# Altium footprint library DISCRETE_SMD.PcbLib: 29 footprints (part 1 of 2)
Each footprint in its own frame and in the unit in brackets; x right, y up, seen from the top. Pads: shape width x height; smd on the part's side, far side on the other; paste and mask are expansions set on the pad; w line width, h text height; cw(c..) or ccw(c..) is an arc to the next point about the centre after c.
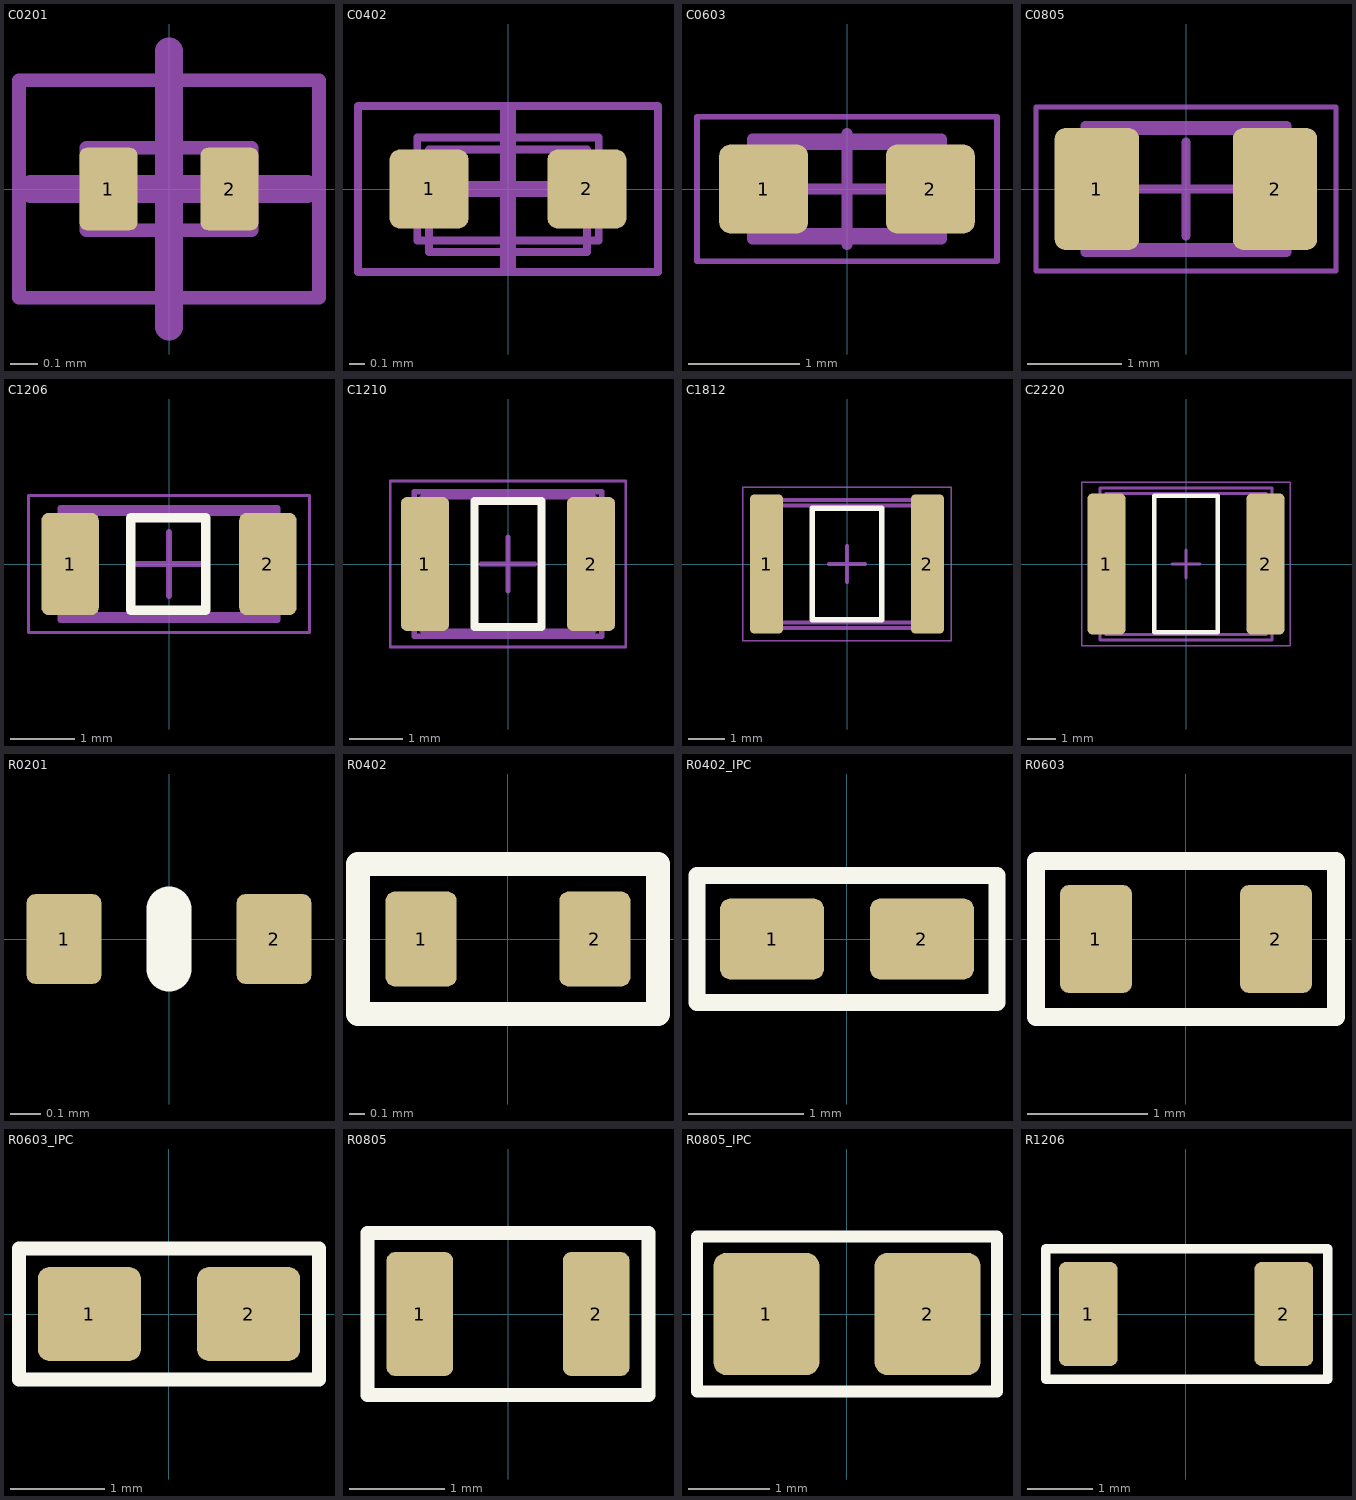
[diagram p0: the footprints below, top view; thin cyan lines are the x and y axes]

## C0201 [mm] "Чип-конденсатор 0201"
height 0.3
pads (2):
  rrect25% 0.21x0.3 smd paste-0.006 mask+0.075: 1(-0.22,0) 2(0.22,0)
Top Assembly:
  lines w0.05: -0.3,-0.15 -0.3,0.15 0.3,0.15 0.3,-0.15 -0.3,-0.15
Top Designator:
  text ".Designator" at -3.647,-0.357 h1
Top 3D Body:
  lines w0.05: -0.3,-0.15 -0.3,0.15 0.3,0.15 0.3,-0.15 -0.3,-0.15
Top Courtyard:
  lines w0.05: -0.545,-0.395 -0.545,0.395 0.545,0.395 0.545,-0.395 -0.545,-0.395
Top Component Center:
  lines w0.1: -0.5,0 0.5,0 ; 0,-0.5 0,0.5
3D body "CAPC0603X03N.step": height 0.31, standoff 0.01, extent -0.3,-0.15 0.3,0.15

## C0402 [mm] "Чип-конденсатор 0402"
height 0.5
pads (2):
  rrect25% 0.5x0.5 smd paste-0.013 mask+0.075: 1(-0.5,0) 2(0.5,0)
Top Assembly:
  lines w0.05: -0.575,-0.325 -0.575,0.325 0.575,0.325 0.575,-0.325 -0.575,-0.325
Top Designator:
  text ".Designator" at -3.647,-0.357 h1
Top 3D Body:
  lines w0.05: -0.5,-0.4 -0.5,0.25 0.5,0.25 0.5,-0.4 -0.5,-0.4
Top Courtyard:
  lines w0.05: -0.95,-0.525 -0.95,0.525 0.95,0.525 0.95,-0.525 -0.95,-0.525
Top Component Center:
  lines w0.1: -0.5,0 0.5,0 ; 0,-0.5 0,0.5
3D body "CAPC1005X05N.step": height 0.51, standoff 0.01, extent -0.5,-0.25 0.5,0.25

## C0603 [mm] "Чип-конденсатор 0603"
height 0.8
pads (2):
  rrect25% 0.8x0.8 smd paste-0.021 mask+0.075: 1(-0.75,0) 2(0.75,0)
Top Assembly:
  lines w0.1: -0.85,-0.45 0.85,-0.45 0.85,0.45 -0.85,0.45 -0.85,-0.45
Top Designator:
  text ".Designator" at -3.647,-0.357 h1
Top 3D Body:
  lines w0.1: -0.8,-0.4 0.8,-0.4 0.8,0.4 -0.8,0.4 -0.8,-0.4
Top Courtyard:
  lines w0.05: -1.35,-0.65 1.35,-0.65 1.35,0.65 -1.35,0.65 -1.35,-0.65
Top Component Center:
  lines w0.1: -0.5,0 0.5,0 ; 0,-0.5 0,0.5
3D body "CAPC1608X08N.step": height 0.81, standoff 0.01, extent -0.8,-0.4 0.8,0.4

## C0805 [mm] "Чип-конденсатор 0805"
height 0.7
pads (2):
  rrect25% 0.9x1.3 smd paste-0.027 mask+0.075: 1(-0.95,0) 2(0.95,0)
Top Assembly:
  lines w0.1: -1.075,-0.675 1.075,-0.675 1.075,0.675 -1.075,0.675 -1.075,-0.675
Top Designator:
  text ".Designator" at -3.647,-0.357 h1
Top 3D Body:
  lines w0.1: -1,-0.625 1,-0.625 1,0.625 -1,0.625 -1,-0.625
Top Courtyard:
  lines w0.05: -1.6,-0.875 -1.6,0.875 1.6,0.875 1.6,-0.875 -1.6,-0.875
Top Component Center:
  lines w0.1: -0.5,0 0.5,0 ; 0,-0.5 0,0.5
3D body "CAPC2012X06N.step": height 0.61, standoff 0.01, extent -1,-0.625 1,0.625

## C1206 [mm] "Чип-конденсатор 1206"
height 1.35
pads (2):
  rrect25% 0.9x1.6 smd paste-0.03 mask+0.075: 1(-1.55,0) 2(1.55,0)
Top Overlay:
  lines w0.15: -0.6,-0.725 0.575,-0.725 0.575,0.725 -0.6,0.725 -0.6,-0.725
Top Assembly:
  lines w0.1: -1.7,-0.875 1.7,-0.875 1.7,0.875 -1.7,0.875 -1.7,-0.875
Top Designator:
  text ".Designator" at -3.647,-0.357 h1
Top 3D Body:
  lines w0.1: -1.6,-0.8 -1.6,0.8 1.6,0.8 1.6,-0.8 -1.6,-0.8
Top Courtyard:
  lines w0.05: -2.2,-1.075 -2.2,1.075 2.2,1.075 2.2,-1.075 -2.2,-1.075
Top Component Center:
  lines w0.1: -0.5,0 0.5,0 ; 0,-0.5 0,0.5
3D body "CAPC3216X12N.step": height 1.26, standoff 0.01, extent -1.6,-0.8 1.6,0.8

## C1210 [mm] "Чип-конденсатор 1210"
height 1.35
pads (2):
  rrect25% 0.9x2.5 smd paste-0.034 mask+0.075: 1(-1.55,0) 2(1.55,0)
Top Overlay:
  lines w0.15: -0.625,-1.175 -0.625,1.175 0.625,1.175 0.625,-1.175 -0.625,-1.175
Top Assembly:
  lines w0.1: -1.75,-1.35 -1.75,1.35 1.75,1.35 1.75,-1.35 -1.75,-1.35
Top Designator:
  text ".Designator" at -3.647,-0.357 h1
Top 3D Body:
  lines w0.1: -1.6,-1.25 -1.6,1.25 1.6,1.25 1.6,-1.25 -1.6,-1.25
Top Courtyard:
  lines w0.05: -2.2,-1.55 -2.2,1.55 2.2,1.55 2.2,-1.55 -2.2,-1.55
Top Component Center:
  lines w0.1: -0.5,0 0.5,0 ; 0,-0.5 0,0.5
3D body "CAPC3225X12N.step": height 1.26, standoff 0.01, extent -1.6,-1.25 1.6,1.25

## C1812 [mm] "Чип-конденсатор 1812"
height 1.35
pads (2):
  rrect25% 0.9x3.8 smd paste-0.037 mask+0.075: 1(-2.2,0) 2(2.2,0)
Top Overlay:
  lines w0.15: -0.95,-1.525 0.95,-1.525 0.95,1.525 -0.95,1.525 -0.95,-1.525
Top Assembly:
  lines w0.1: -2.45,-1.75 -2.45,1.75 2.45,1.75 2.45,-1.75 -2.45,-1.75
Top Designator:
  text ".Designator" at -3.647,-0.357 h1
Top 3D Body:
  lines w0.1: -2.25,-1.6 -2.25,1.6 2.25,1.6 2.25,-1.6 -2.25,-1.6
Top Courtyard:
  lines w0.05: -2.85,-2.1 -2.85,2.1 2.85,2.1 2.85,-2.1 -2.85,-2.1
Top Component Center:
  lines w0.1: -0.5,0 0.5,0 ; 0,-0.5 0,0.5
3D body "CAPC4532X12N.step": height 1.26, standoff 0.01, extent -2.25,-1.6 2.25,1.6

## C2220 [mm] "Чип-конденсатор 2220"
height 2.5
pads (2):
  rrect25% 1.35x5 smd paste-0.054 mask+0.075: 1(-2.825,0) 2(2.825,0)
Top Overlay:
  lines w0.15: -1.125,-2.425 1.125,-2.425 1.125,2.425 -1.125,2.425 -1.125,-2.425
Top Assembly:
  lines w0.1: -3.05,-2.7 -3.05,2.7 3.05,2.7 3.05,-2.7 -3.05,-2.7
Top Designator:
  text ".Designator" at -3.647,-0.357 h1
Top 3D Body:
  lines w0.1: -2.85,-2.5 2.85,-2.5 2.85,2.5 -2.85,2.5 -2.85,-2.5
Top Courtyard:
  lines w0.05: -3.7,-2.9 -3.7,2.9 3.7,2.9 3.7,-2.9 -3.7,-2.9
Top Component Center:
  lines w0.1: -0.5,0 0.5,0 ; 0,-0.5 0,0.5
3D body "CAPC5750X25N.step": height 2.51, standoff 0.01, extent -2.85,-2.5 2.85,2.5

## R0201 [mm] "Чип-резистор 0201"
pads (2):
  rrect25% 0.25x0.3 smd paste-0.007 mask+0.05: 1(-0.35,0) 2(0.35,0)
Top Overlay:
  lines w0.15: 0,-0.1 0,0.1
3D body "User Library-RES_0603-0201.step": height 0.35, standoff 0.01, extent -0.34,-0.165 0.34,0.165

## R0402 [mm] "Чип-резистор 0402"
pads (2):
  rrect25% 0.45x0.6 smd paste-0.013 mask+0.05: 1(-0.55,0) 2(0.55,0)
Top Overlay:
  lines w0.15: -0.95,-0.475 0.95,-0.475 0.95,0.475 -0.95,0.475 -0.95,-0.475
3D body "User Library-0402R.step": height 0.35, standoff 0.01, extent -0.52,-0.3 0.52,0.3

## R0402_IPC [mm] "Чип-резистор 0402"
pads (2):
  rrect25% 0.9x0.7 smd paste-0.02 mask+0.075: 1(-0.65,0) 2(0.65,0)
Top Overlay:
  lines w0.15: -1.3,-0.55 -1.3,0.55 1.3,0.55 1.3,-0.55 -1.3,-0.55
3D body "User Library-0402R.step": height 0.35, standoff 0.01, extent -0.52,-0.3 0.52,0.3

## R0603 [mm] "Чип-резистор 0603"
pads (2):
  rrect25% 0.6x0.9 smd paste-0.018 mask+0.075: 1(-0.75,0) 2(0.75,0)
Top Overlay:
  lines w0.15: -1.25,-0.65 1.25,-0.65 1.25,0.65 -1.25,0.65 -1.25,-0.65
3D body "User Library-RES_1609-0603.step": height 0.57, standoff 0.01, extent -0.85,-0.4 0.85,0.4

## R0603_IPC [mm] "Чип-резистор 0603"
pads (2):
  rrect25% 1.1x1 smd paste-0.027 mask+0.075: 1(-0.85,0) 2(0.85,0)
Top Overlay:
  lines w0.15: -1.6,-0.7 1.6,-0.7 1.6,0.7 -1.6,0.7 -1.6,-0.7
3D body "User Library-RES_1609-0603.step": height 0.57, standoff 0.01, extent -0.85,-0.4 0.85,0.4

## R0805 [mm] "Чип-резистор 0805"
pads (2):
  rrect25% 0.7x1.3 smd paste-0.023 mask+0.075: 1(-0.925,0) 2(0.925,0)
Top Overlay:
  lines w0.15: -1.475,-0.85 -1.475,0.85 1.475,0.85 1.475,-0.85 -1.475,-0.85
3D body "User Library-RES_2013-0805.step": height 0.77, standoff 0.01, extent -1.15,-0.675 1.15,0.675

## R0805_IPC [mm] "Чип-резистор 0805"
pads (2):
  rrect25% 1.3x1.5 smd paste-0.036 mask+0.075: 1(-0.987,0) 2(0.988,0)
Top Overlay:
  lines w0.15: -1.837,-0.95 -1.837,0.95 1.838,0.95 1.838,-0.95 -1.837,-0.95
3D body "User Library-RES_2013-0805.step": height 0.77, standoff 0.01, extent -1.15,-0.675 1.15,0.675

## R1206 [mm] "Чип-резистор 1205"
pads (2):
  rrect25% 0.9x1.6 smd paste-0.03 mask+0.075: 1(-1.5,0) 2(1.5,0)
Top Overlay:
  lines w0.15: -2.15,-1 2.175,-1 2.175,1 -2.15,1 -2.15,-1
3D body "User Library-RES_3216-1206.step": height 0.86, standoff 0.01, extent -1.675,-0.865 1.675,0.865